# EAGLE library part LPC11U68JBD48 (library LPC11U68)
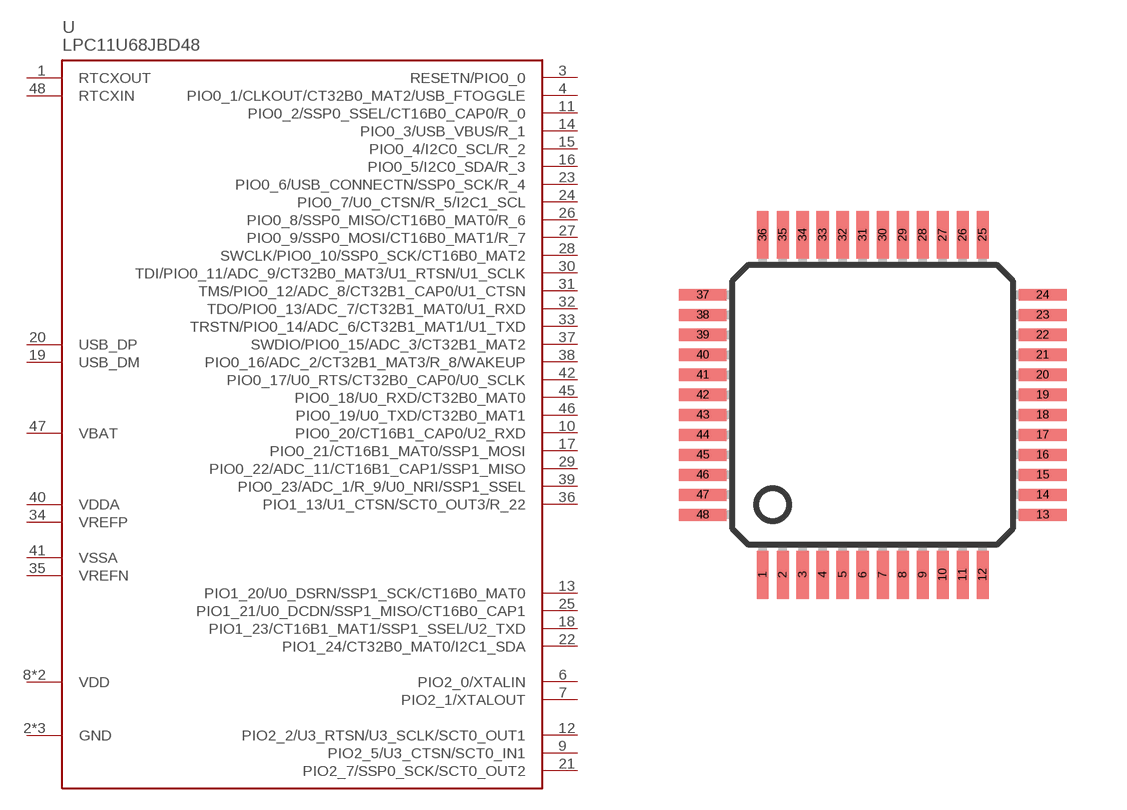
[diagram p1: symbol with the pads of LQFP48; footprint LQFP48]

Designator prefix U

## LPC11U68JBD48  [LQFP48]
1  RTCXOUT
2  GND
3  RESETN/PIO0_0
4  PIO0_1/CLKOUT/CT32B0_MAT2/USB_FTOGGLE
5  GND
6  PIO2_0/XTALIN
7  PIO2_1/XTALOUT
8  VDD
9  PIO2_5/U3_CTSN/SCT0_IN1
10  PIO0_20/CT16B1_CAP0/U2_RXD
11  PIO0_2/SSP0_SSEL/CT16B0_CAP0/R_0
12  PIO2_2/U3_RTSN/U3_SCLK/SCT0_OUT1
13  PIO1_20/U0_DSRN/SSP1_SCK/CT16B0_MAT0
14  PIO0_3/USB_VBUS/R_1
15  PIO0_4/I2C0_SCL/R_2
16  PIO0_5/I2C0_SDA/R_3
17  PIO0_21/CT16B1_MAT0/SSP1_MOSI
18  PIO1_23/CT16B1_MAT1/SSP1_SSEL/U2_TXD
19  USB_DM
20  USB_DP
21  PIO2_7/SSP0_SCK/SCT0_OUT2
22  PIO1_24/CT32B0_MAT0/I2C1_SDA
23  PIO0_6/USB_CONNECTN/SSP0_SCK/R_4
24  PIO0_7/U0_CTSN/R_5/I2C1_SCL
25  PIO1_21/U0_DCDN/SSP1_MISO/CT16B0_CAP1
26  PIO0_8/SSP0_MISO/CT16B0_MAT0/R_6
27  PIO0_9/SSP0_MOSI/CT16B0_MAT1/R_7
28  SWCLK/PIO0_10/SSP0_SCK/CT16B0_MAT2
29  PIO0_22/ADC_11/CT16B1_CAP1/SSP1_MISO
30  TDI/PIO0_11/ADC_9/CT32B0_MAT3/U1_RTSN/U1_SCLK
31  TMS/PIO0_12/ADC_8/CT32B1_CAP0/U1_CTSN
32  TDO/PIO0_13/ADC_7/CT32B1_MAT0/U1_RXD
33  TRSTN/PIO0_14/ADC_6/CT32B1_MAT1/U1_TXD
34  VREFP
35  VREFN
36  PIO1_13/U1_CTSN/SCT0_OUT3/R_22
37  SWDIO/PIO0_15/ADC_3/CT32B1_MAT2
38  PIO0_16/ADC_2/CT32B1_MAT3/R_8/WAKEUP
39  PIO0_23/ADC_1/R_9/U0_NRI/SSP1_SSEL
40  VDDA
41  VSSA
42  PIO0_17/U0_RTS/CT32B0_CAP0/U0_SCLK
43  GND
44  VDD
45  PIO0_18/U0_RXD/CT32B0_MAT0
46  PIO0_19/U0_TXD/CT32B0_MAT1
47  VBAT
48  RTCXIN

## Footprint LQFP48 (pad centres in mm)
48 leads Low Profile Quad Flat Package (LQFP) 7x7 mm, 0.5 mm pitch. Wikipedia article on QFPs <https://en.wikipedia.org/wiki/LQFP>
smd 0.3 x 1.2: 1 -2.75,-4.25; 2 -2.25,-4.25; 3 -1.75,-4.25; 4 -1.25,-4.25; 5 -0.75,-4.25; 6 -0.25,-4.25; 7 0.25,-4.25; 8 0.75,-4.25; 9 1.25,-4.25; 10 1.75,-4.25; 11 2.25,-4.25; 12 2.75,-4.25; 25 2.75,4.25; 26 2.25,4.25; 27 1.75,4.25; 28 1.25,4.25; 29 0.75,4.25; 30 0.25,4.25; 31 -0.25,4.25; 32 -0.75,4.25; 33 -1.25,4.25; 34 -1.75,4.25; 35 -2.25,4.25; 36 -2.75,4.25
smd 1.2 x 0.3: 13 4.25,-2.75; 14 4.25,-2.25; 15 4.25,-1.75; 16 4.25,-1.25; 17 4.25,-0.75; 18 4.25,-0.25; 19 4.25,0.25; 20 4.25,0.75; 21 4.25,1.25; 22 4.25,1.75; 23 4.25,2.25; 24 4.25,2.75; 37 -4.25,2.75; 38 -4.25,2.25; 39 -4.25,1.75; 40 -4.25,1.25; 41 -4.25,0.75; 42 -4.25,0.25; 43 -4.25,-0.25; 44 -4.25,-0.75; 45 -4.25,-1.25; 46 -4.25,-1.75; 47 -4.25,-2.25; 48 -4.25,-2.75